# EAGLE library part LA-301VL (library GClue)
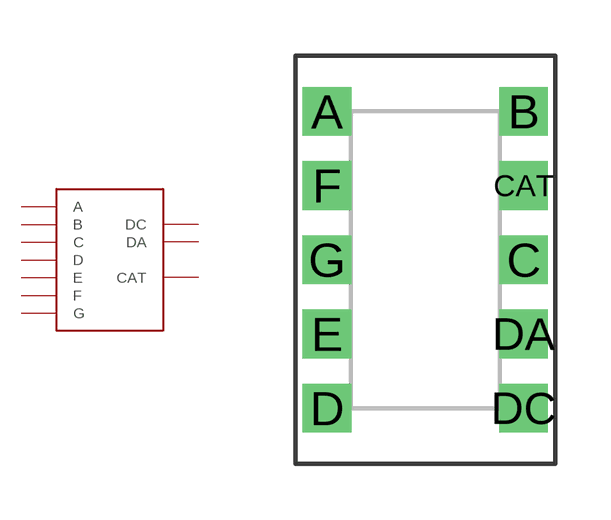
[diagram p30: symbol with the pads of LA-301VL; footprint LA-301VL]

Designator prefix U

## LA-301VL  [LA-301VL]
A  A
B  B
C  C
CAT  CAT
D  D
DA  DA
DC  DC
E  E
F  F
G  G

## Footprint LA-301VL (pad centres in mm)
drill 0.8 square: A -2.65,4; B 2.65,4; C 2.65,0; CAT 2.65,2; D -2.65,-4; DA 2.65,-2; DC 2.65,-4; E -2.65,-2; F -2.65,2; G -2.65,0